# EAGLE library part E22-400M30S (library ali_modules)
SD1268 433/470 MHz SPI SMD LoRa Module
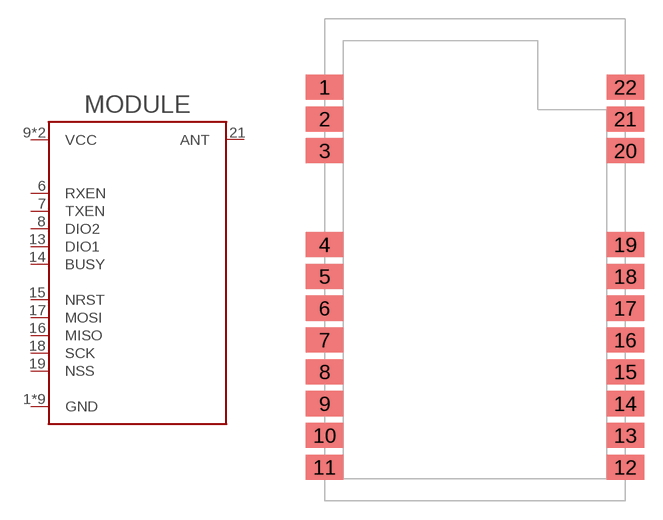
[diagram p10: symbol with the pads of E22-XXXM30S; footprint E22-XXXM30S]

Designator prefix MODULE

## E22-400M30S (MANF: EBYTE; MANF#: E22-400M30S)  [E22-XXXM30S]
1  GND
2  GND
3  GND
4  GND
5  GND
6  RXEN
7  TXEN
8  DIO2
9  VCC
10  VCC
11  GND
12  GND
13  DIO1
14  BUSY
15  NRST
16  MISO
17  MOSI
18  SCK
19  NSS
20  GND
21  ANT
22  GND

## Footprint E22-XXXM30S (pad centres in mm)
smd 3 x 2: 1 -12,13.79; 2 -12,11.25; 3 -12,8.71; 4 -12,1.21; 5 -12,-1.33; 6 -12,-3.87; 7 -12,-6.41; 8 -12,-8.95; 9 -12,-11.49; 10 -12,-14.03; 11 -12,-16.57; 12 12,-16.57; 13 12,-14.03; 14 12,-11.49; 15 12,-8.95; 16 12,-6.41; 17 12,-3.87; 18 12,-1.33; 19 12,1.21; 20 12,8.71; 21 12,11.25; 22 12,13.79